# Altium footprint library Capacitors.PcbLib: 46 footprints (part 1 of 3)
Each footprint in its own frame and in the unit in brackets; x right, y up, seen from the top. Pads: shape width x height; smd on the part's side, far side on the other; paste and mask are expansions set on the pad; w line width, h text height; cw(c..) or ccw(c..) is an arc to the next point about the centre after c.
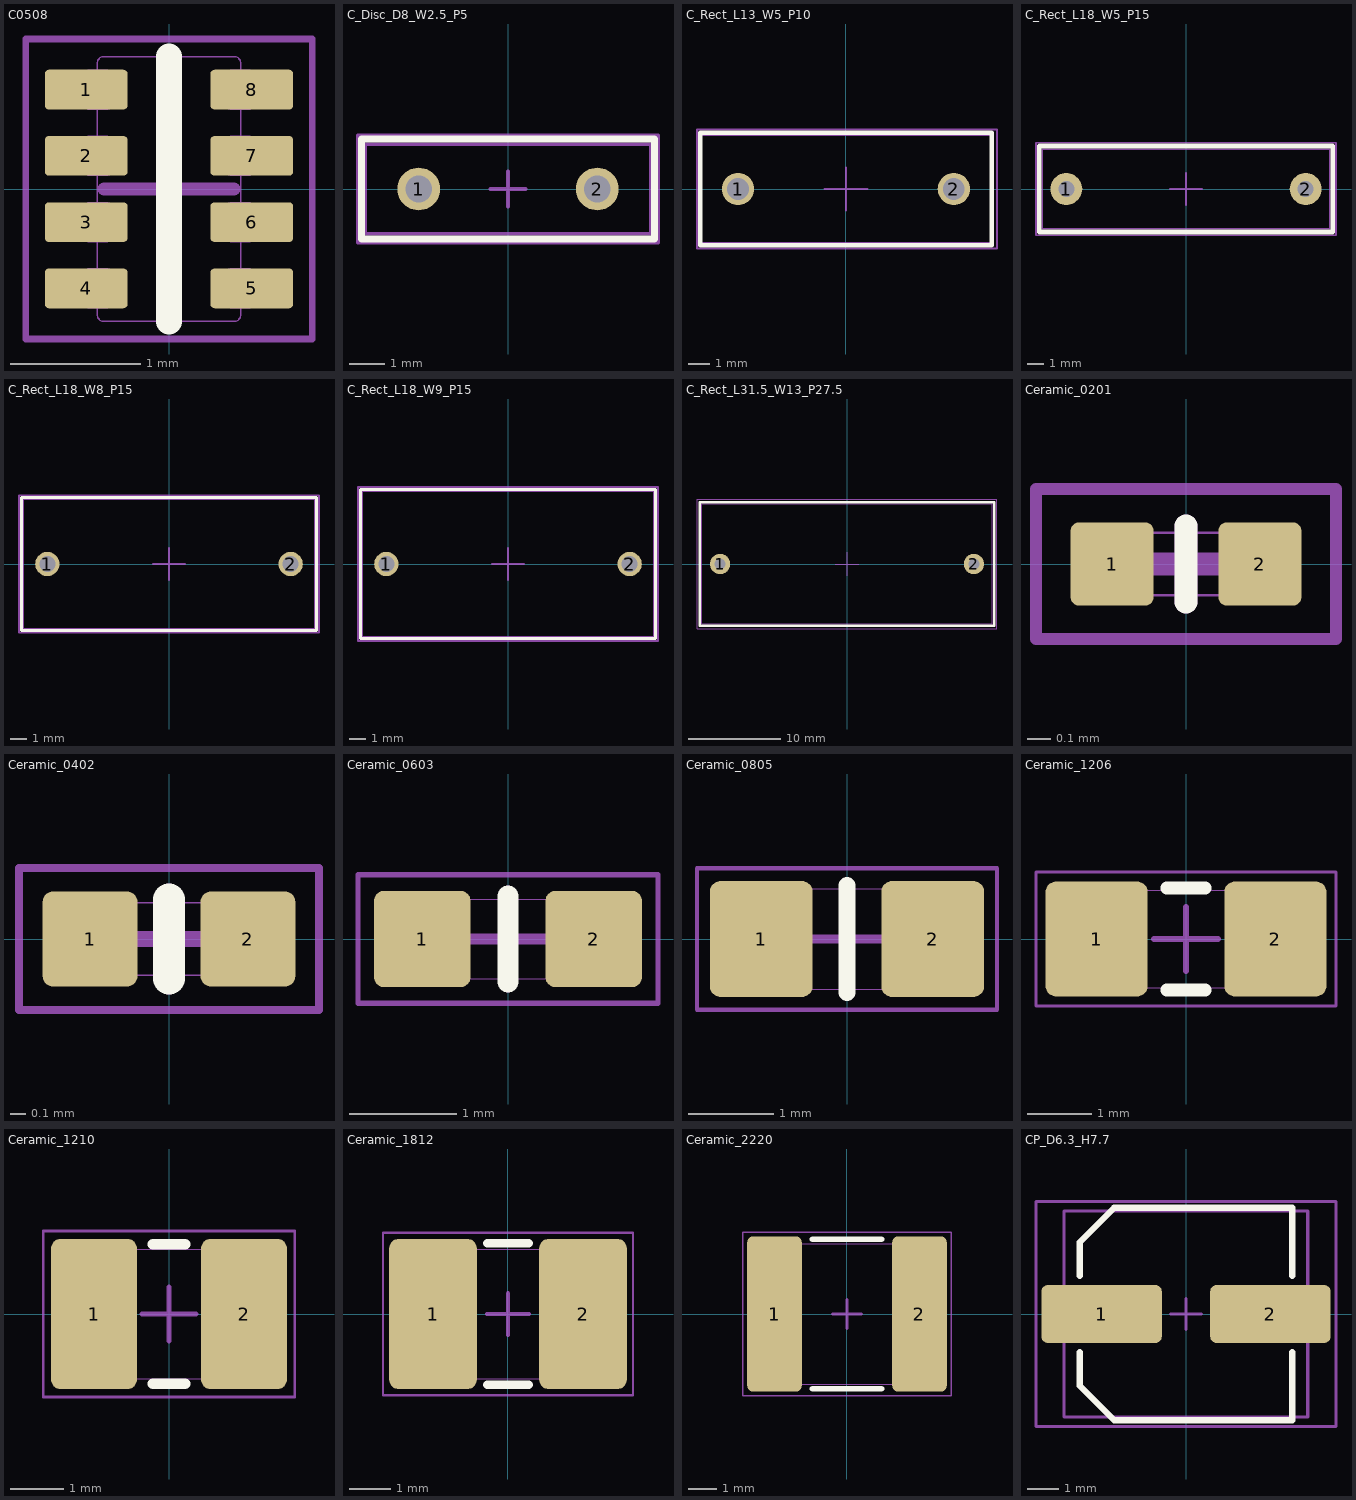
[diagram p0: the footprints below, top view; thin cyan lines are the x and y axes]

## C0508 [mil] "Chip Capacitor Array, 8-Leads, Body 1.2x2.0mm, IPC Medium Density"
pads (8):
  rrect20% 25x12 smd: 1(-25,30) 2(-25,10) 3(-25,-10) 4(-25,-30) 5(25,-30) 6(25,-10) 7(25,10) 8(25,30)
Top Overlay:
  lines w7.87: 0,-39.96 0,39.96
Mechanical 1:
  lines w0.39: -21.65,-35.91 -21.65,-37.99 ccw(c-19.68,-37.99) -19.68,-39.96 19.68,-39.96 ccw(c19.68,-37.99) 21.65,-37.99 21.65,-35.91 ; -21.65,-24.09 -21.65,-15.91 ; -21.65,-4.09 -21.65,4.09 ; -21.65,15.91 -21.65,24.09 ; -21.65,35.91 -21.65,37.99 cw(c-19.68,37.99) -19.68,39.96 19.68,39.96 cw(c19.68,37.99) 21.65,37.99 21.65,35.91 ; 21.65,-24.09 21.65,-15.91 ; 21.65,-4.09 21.65,4.09 ; 21.65,15.91 21.65,24.09 ; -25,-34.92 ccw(c-24.02,-34.92) -24.02,-35.91 -19.09,-35.91 ccw(c-19.09,-31.97) -15.16,-31.97 -15.16,-28.03 ccw(c-19.09,-28.03) -19.09,-24.09 -24.02,-24.09 ccw(c-24.02,-25.08) -25,-25.08 -25,-34.92 ; -25,-14.92 ccw(c-24.02,-14.92) -24.02,-15.91 -19.09,-15.91 ccw(c-19.09,-11.97) -15.16,-11.97 -15.16,-8.03 ccw(c-19.09,-8.03) -19.09,-4.09 -24.02,-4.09 ccw(c-24.02,-5.08) -25,-5.08 -25,-14.92 ; -25,5.08 ccw(c-24.02,5.08) -24.02,4.09 -19.09,4.09 ccw(c-19.09,8.03) -15.16,8.03 -15.16,11.97 ccw(c-19.09,11.97) -19.09,15.91 -24.02,15.91 ccw(c-24.02,14.92) -25,14.92 -25,5.08 ; -25,25.08 ccw(c-24.02,25.08) -24.02,24.09 -19.09,24.09 ccw(c-19.09,28.03) -15.16,28.03 -15.16,31.97 ccw(c-19.09,31.97) -19.09,35.91 -24.02,35.91 ccw(c-24.02,34.92) -25,34.92 -25,25.08 ; 15.16,-31.97 ccw(c19.09,-31.97) 19.09,-35.91 24.02,-35.91 ccw(c24.02,-34.92) 25,-34.92 25,-25.08 ccw(c24.02,-25.08) 24.02,-24.09 19.09,-24.09 ccw(c19.09,-28.03) 15.16,-28.03 15.16,-31.97 ; 15.16,-11.97 ccw(c19.09,-11.97) 19.09,-15.91 24.02,-15.91 ccw(c24.02,-14.92) 25,-14.92 25,-5.08 ccw(c24.02,-5.08) 24.02,-4.09 19.09,-4.09 ccw(c19.09,-8.03) 15.16,-8.03 15.16,-11.97 ; 15.16,8.03 ccw(c19.09,8.03) 19.09,4.09 24.02,4.09 ccw(c24.02,5.08) 25,5.08 25,14.92 ccw(c24.02,14.92) 24.02,15.91 19.09,15.91 ccw(c19.09,11.97) 15.16,11.97 15.16,8.03 ; 15.16,28.03 ccw(c19.09,28.03) 19.09,24.09 24.02,24.09 ccw(c24.02,25.08) 25,25.08 25,34.92 ccw(c24.02,34.92) 24.02,35.91 19.09,35.91 ccw(c19.09,31.97) 15.16,31.97 15.16,28.03
Mechanical 15:
  lines w1.97: -43.31,-45.28 43.31,-45.28 43.31,45.28 -43.31,45.28 -43.31,-45.28
  lines w3.94: -19.68,0 19.68,0 ; 0,-19.68 0,19.68
3D body "C_0508_1220Metric.STEP": height 21.65, standoff 0, extent -25,-39.96 25,39.96

## C_Disc_D8_W2.5_P5 [mm]
pads (2):
  round 1.2 hole 0.75: 1(-2.5,0) 2(2.5,0)
Top Overlay:
  lines w0.2: -4.1,-1.4 4.1,-1.4 4.1,1.4 -4.1,1.4 -4.1,-1.4
Mechanical 1:
  lines w0.1: -4,-1.25 3.999,-1.25 3.999,1.25 -4,1.25 -4,-1.25
Mechanical 15:
  lines w0.1: -0.5,0 0.5,0 ; 0,-0.5 0,0.5 ; -4.2,-1.5 4.2,-1.5 4.2,1.5 -4.2,1.5 -4.2,-1.5
3D body "C_Disc_D8.0mm_W5.0mm_P5.00mm.step": height 8.1, standoff -2, extent -4,-2.5 3.997,2.5

## C_Rect_L13_W5_P10 [mm]
pads (2):
  round 1.5 hole 1 unplated: 1(-5,0) 2(5,0)
Top Overlay:
  lines w0.2: -6.75,-2.6 -6.75,2.6 6.75,2.6 6.75,-2.6 -6.75,-2.6
Mechanical 1:
  lines w0.1: -6.75,-2.5 6.75,-2.5 6.75,2.5 -6.75,2.5 -6.75,-2.5
Mechanical 15:
  lines w0.1: -1,0 1,0 ; 0,-1 0,1 ; -6.9,-2.75 -6.9,2.75 7,2.75 7,-2.75 -6.9,-2.75
3D body "C_Rect_L13.5mm_W5.0mm_P10.00mm_FKS3_FKP3_MKS4.step": height 10.1, standoff -1.8, extent -6.75,-2.5 6.75,2.5

## C_Rect_L18_W5_P15 [mm]
pads (2):
  round 2 hole 1: 1(-7.5,0) 2(7.5,0)
Top Overlay:
  lines w0.3: -9.2,-2.7 -9.2,2.7 9.2,2.7 9.2,-2.7 -9.2,-2.7
Mechanical 1:
  lines w0.1: -9,-2.5 -9,2.5 9,2.5 9,-2.5 -9,-2.5
Mechanical 15:
  lines w0.1: -1,0 1,0 ; 0,-1 0,1 ; -9.4,-2.9 -9.4,2.9 9.4,2.9 9.4,-2.9 -9.4,-2.9
3D body "C_Rect_L18.0mm_W5.0mm_P15.00mm_FKS3_FKP3.step": height 15.1, standoff -1.8, extent -9,-2.5 9,2.5

## C_Rect_L18_W8_P15 [mm]
pads (2):
  round 1.5 hole 1 unplated: 1(-7.5,0) 2(7.5,0)
Top Overlay:
  lines w0.2: -9.1,-4.1 9.1,-4.1 9.1,4.1 -9.1,4.1 -9.1,-4.1
Mechanical 1:
  lines w0.1: -9,-4 -9,4 9,4 9,-4 ; -9,-4 -9,-4 ; -9,-4 9,-4 ; 9,-4 9,-4
Mechanical 15:
  lines w0.1: -1,0 1,0 ; 0,-1 0,1 ; -9.25,-4.25 -9.25,4.25 9.25,4.25 9.25,-4.25 -9.25,-4.25
3D body "C_Rect_L18.0mm_W8.0mm_P15.00mm_FKS3_FKP3.step": height 15, standoff -1.9, extent -9,-4 9,4

## C_Rect_L18_W9_P15 [mm]
pads (2):
  round 1.5 hole 1 unplated: 1(-7.5,0) 2(7.5,0)
Top Overlay:
  lines w0.2: -9.1,-4.6 9.1,-4.6 9.1,4.6 -9.1,4.6 -9.1,-4.6
Mechanical 1:
  lines w0.1: -9,-4.5 -9,4.5 9,4.5 9,-4.5 -9,-4.5
Mechanical 15:
  lines w0.1: -1,0 1,0 ; 0,-1 0,1 ; -9.25,-4.75 9.25,-4.75 9.25,4.75 -9.25,4.75 -9.25,-4.75
3D body "C_Rect_L18.0mm_W9.0mm_P15.00mm_FKS3_FKP3.step": height 15, standoff -1.9, extent -9,-4.5 9,4.5

## C_Rect_L31.5_W13_P27.5 [mm]
pads (2):
  round 2.2 hole 1.2: 1(-13.75,0) 2(13.75,0)
Top Overlay:
  lines w0.3: -15.95,-6.7 15.95,-6.7 15.95,6.7 -15.95,6.7 -15.95,-6.7
Mechanical 1:
  lines w0.1: -15.75,-6.5 -15.75,6.5 15.75,6.5 15.75,-6.5 -15.75,-6.5
Mechanical 15:
  lines w0.1: -1.25,0 1.25,0 ; 0,-1.25 0,1.25 ; -16.25,-7 -16.25,7 16.25,7 16.25,-7 -16.25,-7
3D body "C_Rect_L31.5mm_W13.0mm_P27.50mm_MKS4.step": height 26.1, standoff -1.8, extent -15.75,-6.5 15.75,6.5

## Ceramic_0201 [mm] "Chip Capacitor, 2-Leads, Body 0.60x0.30mm, IPC Medium Density"
height 0.33
pads (2):
  rrect20% 0.36x0.36 smd: 1(-0.32,0) 2(0.32,0)
Top Overlay:
  lines w0.1: 0,-0.165 0,0.165
Mechanical 1:
  lines w0.01: -0.15,-0.135 0.15,-0.135 ; -0.15,0.135 0.15,0.135 ; -0.3,-0.15 -0.3,0.15 -0.15,0.15 -0.15,-0.15 -0.3,-0.15 ; 0.15,-0.15 0.15,0.15 0.3,0.15 0.3,-0.15 0.15,-0.15
Mechanical 15:
  lines w0.05: -0.65,-0.325 -0.65,0.325 0.65,0.325 0.65,-0.325 -0.65,-0.325
  lines w0.1: -0.165,0 0.165,0 ; 0,-0.165 0,0.165
3D body "C_0201_0603Metric.step": height 0.3, standoff 0, extent -0.3,-0.15 0.3,0.15

## Ceramic_0402 [mm] "Chip Capacitor, 2-Leads, Body 1.0x0.5mm, IPC Medium Density"
height 0.5
pads (2):
  rrect20% 0.6x0.6 smd: 1(-0.5,0) 2(0.5,0)
Top Overlay:
  lines w0.2: 0,-0.25 0,0.25
Mechanical 1:
  lines w0.01: -0.3,-0.23 0.3,-0.23 ; -0.3,0.23 0.3,0.23 ; -0.5,-0.25 -0.3,-0.25 -0.3,0.25 -0.5,0.25 -0.5,-0.25 ; 0.3,-0.25 0.5,-0.25 0.5,0.25 0.3,0.25 0.3,-0.25
Mechanical 15:
  lines w0.05: -0.95,-0.45 0.95,-0.45 0.95,0.45 -0.95,0.45 -0.95,-0.45
  lines w0.1: -0.3,0 0.3,0 ; 0,-0.3 0,0.3
3D body "C_0402_1005Metric.step": height 0.5, standoff 0, extent -0.5,-0.25 0.5,0.25

## Ceramic_0603 [mm] "Chip Capacitor, 2-Leads, Body 1.6x0.8mm, IPC Medium Density"
pads (2):
  rrect20% 0.9x0.9 smd: 1(-0.8,0) 2(0.8,0)
Top Overlay:
  lines w0.2: 0,-0.4 0,0.4
Mechanical 1:
  lines w0.01: -0.5,-0.37 0.5,-0.37 ; -0.5,0.37 0.5,0.37 ; -0.8,-0.4 -0.5,-0.4 -0.5,0.4 -0.8,0.4 -0.8,-0.4 ; 0.5,-0.4 0.8,-0.4 0.8,0.4 0.5,0.4 0.5,-0.4
Mechanical 15:
  lines w0.05: -1.4,-0.6 1.4,-0.6 1.4,0.6 -1.4,0.6 -1.4,-0.6
  lines w0.1: -0.45,0 0.45,0 ; 0,-0.45 0,0.45
3D body "C_0603_1608Metric.step": height 0.8, standoff 0, extent -0.8,-0.4 0.8,0.4

## Ceramic_0805 [mm] "Chip Capacitor, 2-Leads, Body 2.0x1.25mm, IPC Medium Density"
height 0.6
pads (2):
  rrect20% 1.2x1.35 smd: 1(-1,0) 2(1,0)
Top Overlay:
  lines w0.2: 0,-0.625 0,0.625
Mechanical 1:
  lines w0.01: -0.6,-0.585 0.6,-0.585 ; -0.6,0.585 0.6,0.585 ; -1,-0.625 -0.6,-0.625 -0.6,0.625 -1,0.625 -1,-0.625 ; 0.6,-0.625 1,-0.625 1,0.625 0.6,0.625 0.6,-0.625
Mechanical 15:
  lines w0.05: -1.75,-0.825 -1.75,0.825 1.75,0.825 1.75,-0.825 -1.75,-0.825
  lines w0.1: -0.5,0 0.5,0 ; 0,-0.5 0,0.5
3D body "C_0805_2012Metric.step": height 1.25, standoff 0, extent -1,-0.625 1,0.625

## Ceramic_1206 [mm] "Chip Capacitor, 2-Leads, Body 3.2x1.6mm, IPC Medium Density"
pads (2):
  rrect20% 1.6x1.8 smd: 1(-1.4,0) 2(1.4,0)
Top Overlay:
  lines w0.2: -0.3,-0.8 0.3,-0.8 ; -0.3,0.8 0.3,0.8
Mechanical 1:
  lines w0.01: -1.2,-0.76 1.2,-0.76 ; -1.2,0.76 1.2,0.76 ; -1.6,-0.8 -1.2,-0.8 -1.2,0.8 -1.6,0.8 -1.6,-0.8 ; 1.2,-0.8 1.6,-0.8 1.6,0.8 1.2,0.8 1.2,-0.8
Mechanical 15:
  lines w0.05: -2.35,-1.05 2.35,-1.05 2.35,1.05 -2.35,1.05 -2.35,-1.05
  lines w0.1: -0.5,0 0.5,0 ; 0,-0.5 0,0.5
3D body "C_1206_3216Metric.step": height 1.6, standoff 0, extent -1.6,-0.8 1.6,0.8

## Ceramic_1210 [mm] "Chip Capacitor, 2-Leads, Body 3.2x2.6mm, IPC Medium Density"
pads (2):
  rrect20% 1.6x2.8 smd: 1(-1.4,0) 2(1.4,0)
Top Overlay:
  lines w0.2: -0.3,-1.3 0.3,-1.3 ; -0.3,1.3 0.3,1.3
Mechanical 1:
  lines w0.01: -1.2,-1.21 1.2,-1.21 ; -1.2,1.21 1.2,1.21 ; -1.6,-1.25 -1.2,-1.25 -1.2,1.25 -1.6,1.25 -1.6,-1.25 ; 1.2,-1.25 1.6,-1.25 1.6,1.25 1.2,1.25 1.2,-1.25
Mechanical 15:
  lines w0.05: -2.35,-1.55 -2.35,1.55 2.35,1.55 2.35,-1.55 -2.35,-1.55
  lines w0.1: -0.5,0 0.5,0 ; 0,-0.5 0,0.5
3D body "C_1210_3225Metric.step": height 2.5, standoff 0, extent -1.6,-1.25 1.6,1.25

## Ceramic_1812 [mm] "Chip Capacitor, 2-Leads, Body 4.5x3.2mm, IPC Medium Density"
height 4
pads (2):
  rrect20% 2.1x3.6 smd: 1(-1.8,0) 2(1.8,0)
Top Overlay:
  lines w0.2: -0.5,-1.7 0.5,-1.7 ; -0.5,1.7 0.5,1.7
Mechanical 1:
  lines w0.01: -1.75,-1.55 1.75,-1.55 ; -1.75,1.55 1.75,1.55 ; -2.25,-1.6 -1.75,-1.6 -1.75,1.6 -2.25,1.6 -2.25,-1.6 ; 1.75,-1.6 2.25,-1.6 2.25,1.6 1.75,1.6 1.75,-1.6
Mechanical 15:
  lines w0.05: -3,-1.95 -3,1.95 3,1.95 3,-1.95 -3,-1.95
  lines w0.1: -0.5,0 0.5,0 ; 0,-0.5 0,0.5
3D body "C_1812_4532Metric.step": height 2.5, standoff 0, extent -2.25,-1.6 2.25,1.6

## Ceramic_2220 [mm] "Chip Capacitor, 2-Leads, Body 5.70x5.00mm, IPC Medium Density"
height 3.3
pads (2):
  rrect20% 1.9x5.4 smd: 1(-2.525,0) 2(2.525,0)
Top Overlay:
  lines w0.2: -1.2,-2.6 1.2,-2.6 ; -1.2,2.6 1.2,2.6
Mechanical 1:
  lines w0.01: -2.3,-2.45 2.3,-2.45 ; -2.3,2.45 2.3,2.45 ; -2.8,-2.5 -2.3,-2.5 -2.3,2.5 -2.8,2.5 -2.8,-2.5 ; 2.3,-2.5 2.3,2.5 2.8,2.5 2.8,-2.5 2.3,-2.5
Mechanical 15:
  lines w0.05: -3.625,-2.85 3.625,-2.85 3.625,2.85 -3.625,2.85 -3.625,-2.85
  lines w0.1: -0.5,0 0.5,0 ; 0,-0.5 0,0.5
3D body "C_2220_5650Metric.step": height 2.9, standoff 0, extent -2.8,-2.5 2.8,2.5

## CP_D6.3_H7.7 [mm]
height 7.7
pads (2):
  rrect20% 3.85x1.85 smd: 1(-2.7,0) 2(2.7,0)
Top Overlay:
  lines w0.2: -3.4,-1.225 -3.4,-2.3 -2.3,-3.4 3.4,-3.4 3.4,-1.225 ; -3.4,1.225 -3.4,2.3 -2.3,3.4 3.4,3.4 3.4,1.225
Mechanical 1:
  lines w0.1: -3.903,-3.301 3.896,-3.301 3.896,3.299 -3.903,3.299 -3.903,-3.301
Mechanical 15:
  lines w0.1: -0.5,0 0.5,0 ; 0,-0.5 0,0.5 ; -4.8,-3.6 4.8,-3.6 4.8,3.6 -4.8,3.6 -4.8,-3.6
3D body "CP_Elec_6.3x9.9.step": height 9.9, standoff 0, extent -3.903,-3.301 3.897,3.299